# Altium footprint library 1N914.PcbLib: 3 footprints
Each footprint in its own frame and in the unit in brackets; x right, y up, seen from the top. Pads: shape width x height; smd on the part's side, far side on the other; paste and mask are expansions set on the pad; w line width, h text height; cw(c..) or ccw(c..) is an arc to the next point about the centre after c.
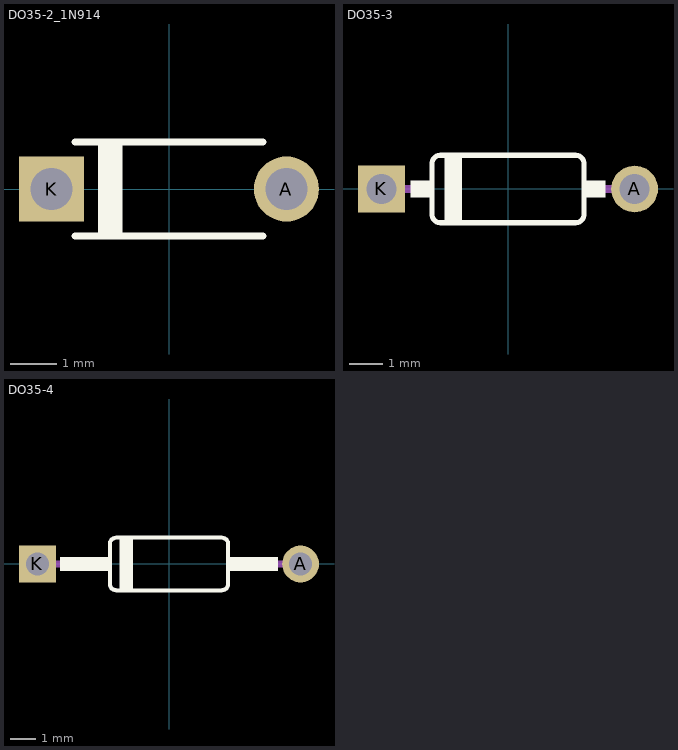
[diagram p0: the footprints below, top view; thin cyan lines are the x and y axes]

## DO35-2_1N914 [mm]
height 1
pads (2):
  round 1.408 hole 0.9: A(2.54,0)
  rect 1.408x1.408 hole 0.9: K(-2.54,0)
Top Overlay:
  region: -1.526,1.016 -1.016,1.016 -1.016,-1.016 -1.526,-1.016
  lines w0.152: -2.032,-1.016 2.032,-1.016 ; -2.032,1.016 2.032,1.016
  lines w0.254: -2.54,0 -2.464,0 ; 2.464,0 2.54,0
Mechanical 15:
  text ".Designator" at -0.889,-0.381 h1.52

## DO35-3 [mm]
pads (2):
  round 1.408 hole 0.9: A(3.81,0)
  rect 1.408x1.408 hole 0.9: K(-3.81,0)
Top Overlay:
  region: -1.907,1.016 -1.397,1.016 -1.397,-1.017 -1.907,-1.017
  region: 2.289,0.254 2.921,0.254 2.921,-0.254 2.289,-0.254
  region: -2.923,0.254 -2.286,0.254 -2.286,-0.254 -2.923,-0.254
  lines w0.152: -2.286,-0.762 ccw(c-2.032,-0.762) -2.032,-1.016 2.032,-1.016 ccw(c2.032,-0.762) 2.286,-0.762 2.286,0.762 ccw(c2.032,0.762) 2.032,1.016 -2.032,1.016 ccw(c-2.032,0.762) -2.286,0.762 -2.286,-0.762
Mechanical 1:
  lines w0.254: -3.81,0 -2.921,0 ; 2.921,0 3.81,0
Mechanical 15:
  text ".Designator" at -0.889,-0.381 h1.52

## DO35-4 [mil]
pads (2):
  round 56 hole 35.43: A(200,0)
  rect 56x56 hole 35.43: K(-200,0)
Top Overlay:
  region: -75.07,40 -55,40 -55,-40.04 -75.07,-40.04
  region: 90.03,10 165,10 165,-10 90.03,-10
  region: -165.28,10 -90,10 -90,-10.02 -165.28,-10.02
  lines w6: -90,-30 ccw(c-80,-30) -80,-40 80,-40 ccw(c80,-30) 90,-30 90,30 ccw(c80,30) 80,40 -80,40 ccw(c-80,30) -90,30 -90,-30
Mechanical 1:
  lines w10: -200,0 -165,0 ; 165,0 200,0
Mechanical 15:
  text ".Designator" at -35,-15 h60